# Altium schematic symbol library Schlib2.SchLib: 11 symbols
Pins are listed as number, name and electrical type; pins without a type are passive.

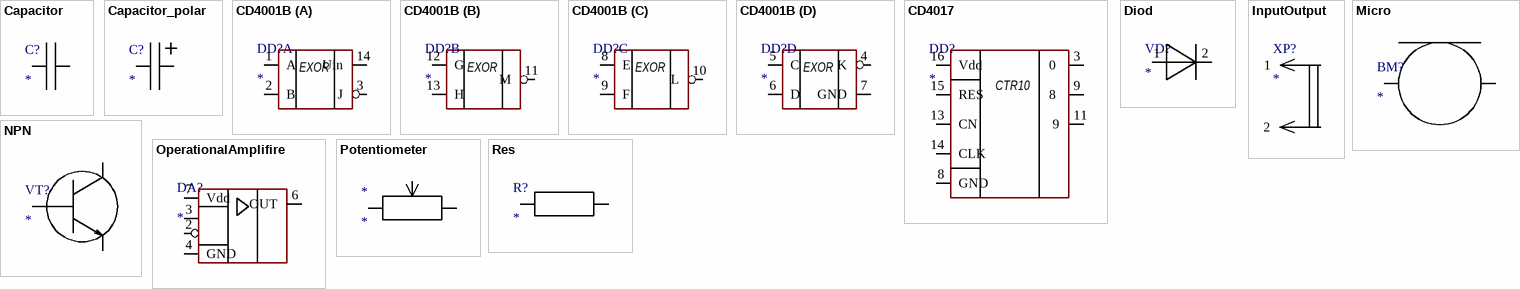
[diagram p0: symbols Capacitor to Res]

## Capacitor
designator C?
footprint CAPA_К50-35
footprint CAPA_1206
pins: 1, 2

## Capacitor_polar
designator C?
footprint CAPA_Polar
footprint CAPA_К50-35
pins: 1, 2

## CD4001B
designator DD?
footprint CD4001B_DIP
part A pins: 1 A, 2 B, 3 J, 14 Uin
part B pins: 11 M, 12 G, 13 H
part C pins: 8 E, 9 F, 10 L
part D pins: 4 K, 5 C, 6 D, 7 GND
1 alternate drawing of the same symbol
part A text: EXOR
part B text: EXOR
part C text: EXOR
part D text: EXOR

## CD4017
designator DD?
footprint CB4017B
pins: 3 0 , 8 GND, 9 8 , 11 9, 13 CN, 14 CLK, 15 RES, 16 Vdd
text: CTR10

## Diod
designator VD?
footprint DIODE
pins: 1, 2

## InputOutput
designator XP?
footprint INPUT_OUTPUT_CWF-2R
pins: 1, 2

## Micro
designator BM?
footprint electret_micro
pins: 1, 2

## NPN
designator VT?
footprint TRANSISTOR_KT3102
pins: 1, 2, 3 "у"

## OperationalAmplifire
designator DA?
footprint OPERATION_AMPLIFIRE
pins: 2, 3, 4 GND, 6 OUT, 7 Vdd

## Potentiometer
designator *
footprint POTENTIOMETER
pins: 1  1, 2  2, 3

## Res
designator R?
footprint RES_output
footprint RES0805
pins: 1  1, 2  2